# Altium footprint library CAP_TH_CER_5_08MM_DIY.PcbLib: 1 footprints
Each footprint in its own frame and in the unit in brackets; x right, y up, seen from the top. Pads: shape width x height; smd on the part's side, far side on the other; paste and mask are expansions set on the pad; w line width, h text height; cw(c..) or ccw(c..) is an arc to the next point about the centre after c.
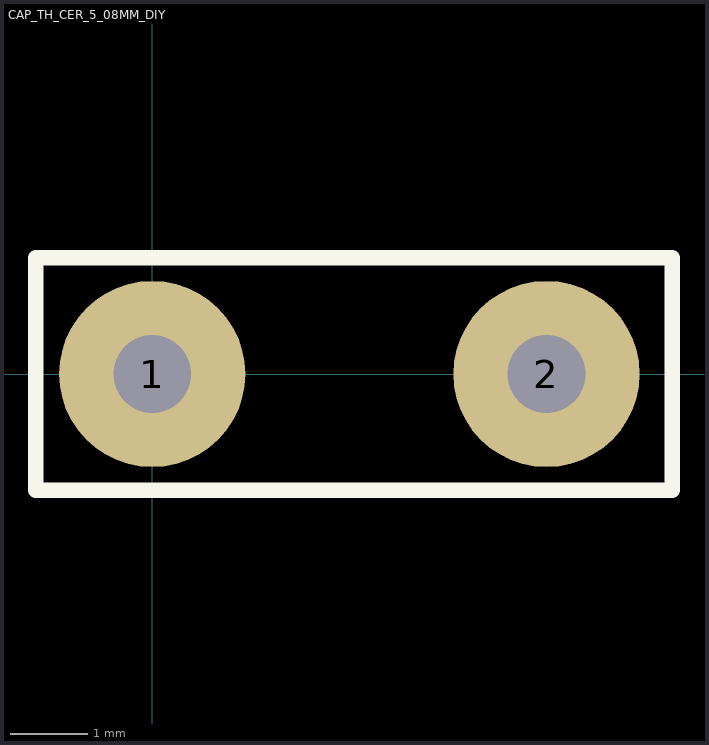
[diagram p0: the footprint, top view; thin cyan lines are the x and y axes]

## CAP_TH_CER_5_08MM_DIY [mm]
pads (2):
  round 2.4 hole 1: 1(0,0) 2(5.08,0)
Top Overlay:
  lines w0.2: -1.5,-1.5 6.7,-1.5 6.7,1.5 -1.5,1.5 -1.5,-1.5